# EAGLE library part AM188ER (library AMD)
AM188ER Microcontroller
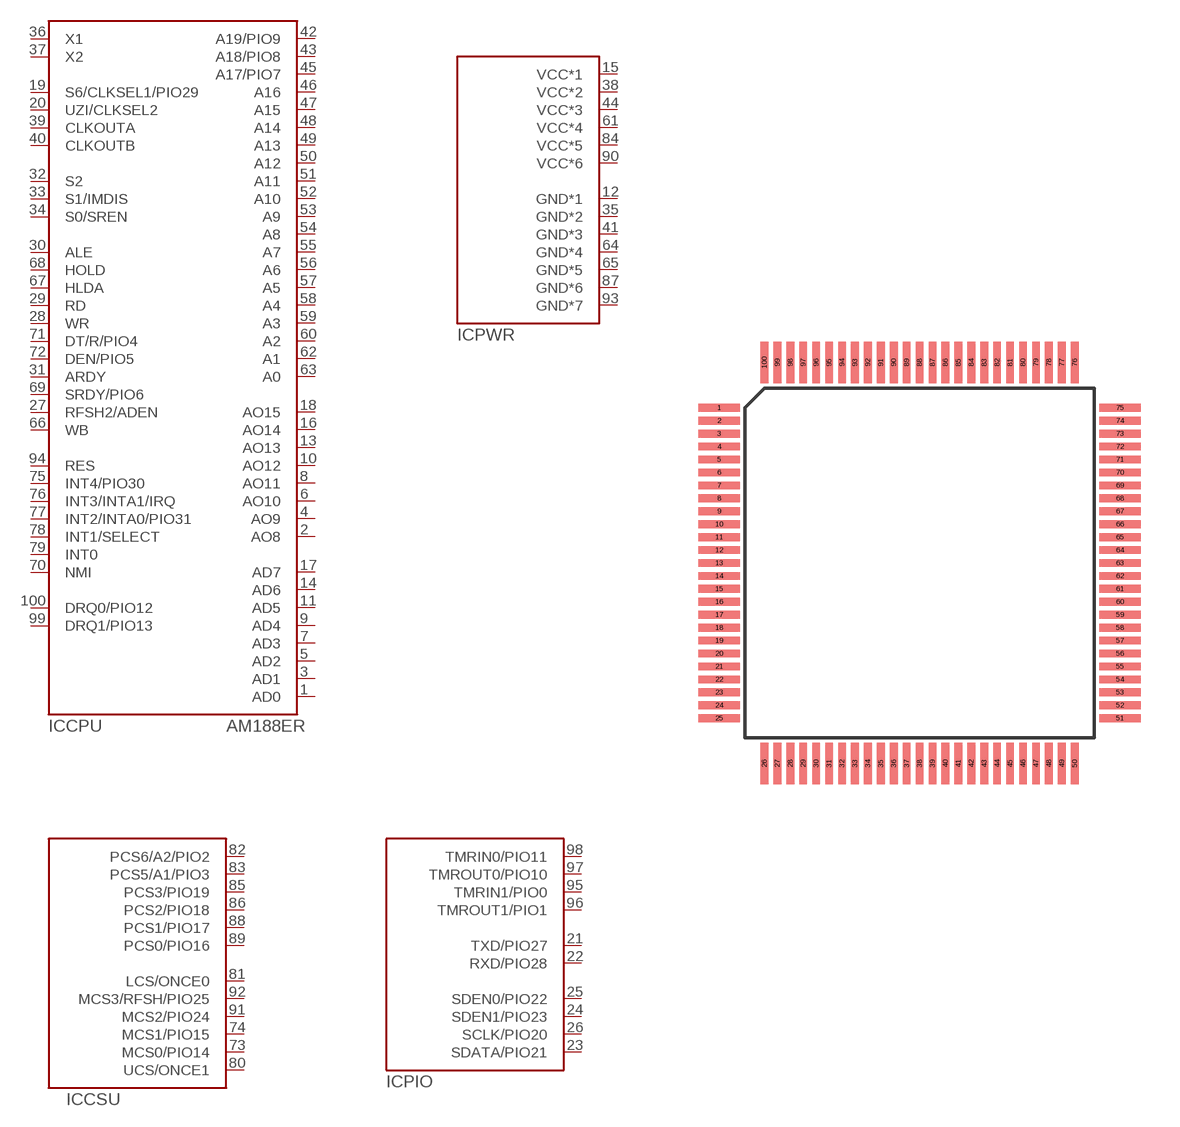
[diagram p0: symbol with the pads of TQFP-100; footprint TQFP-100]

Designator prefix IC; gates CPU=AM188ER-CPU CSU=AM188ER-CSU PIO=AM188ER-PIO PWR=AM188ER-PWR

## AM188ER-V  [TQFP-100]
1  CPU:AD0
2  CPU:AO8
3  CPU:AD1
4  CPU:AO9
5  CPU:AD2
6  CPU:AO10
7  CPU:AD3
8  CPU:AO11
9  CPU:AD4
10  CPU:AO12
11  CPU:AD5
12  PWR:GND*1  pwr
13  CPU:AO13
14  CPU:AD6
15  PWR:VCC*1  pwr
16  CPU:AO14
17  CPU:AD7
18  CPU:AO15
19  CPU:S6/CLKSEL1/PIO29
20  CPU:UZI/CLKSEL2
21  PIO:TXD/PIO27
22  PIO:RXD/PIO28
23  PIO:SDATA/PIO21
24  PIO:SDEN1/PIO23
25  PIO:SDEN0/PIO22
26  PIO:SCLK/PIO20
27  CPU:RFSH2/ADEN
28  CPU:WR
29  CPU:RD
30  CPU:ALE
31  CPU:ARDY
32  CPU:S2
33  CPU:S1/IMDIS
34  CPU:S0/SREN
35  PWR:GND*2  pwr
36  CPU:X1
37  CPU:X2
38  PWR:VCC*2  pwr
39  CPU:CLKOUTA
40  CPU:CLKOUTB
41  PWR:GND*3  pwr
42  CPU:A19/PIO9
43  CPU:A18/PIO8
44  PWR:VCC*3  pwr
45  CPU:A17/PIO7
46  CPU:A16
47  CPU:A15
48  CPU:A14
49  CPU:A13
50  CPU:A12
51  CPU:A11
52  CPU:A10
53  CPU:A9
54  CPU:A8
55  CPU:A7
56  CPU:A6
57  CPU:A5
58  CPU:A4
59  CPU:A3
60  CPU:A2
61  PWR:VCC*4  pwr
62  CPU:A1
63  CPU:A0
64  PWR:GND*4  pwr
65  PWR:GND*5  pwr
66  CPU:WB
67  CPU:HLDA
68  CPU:HOLD
69  CPU:SRDY/PIO6
70  CPU:NMI
71  CPU:DT/R/PIO4
72  CPU:DEN/PIO5
73  CSU:MCS0/PIO14
74  CSU:MCS1/PIO15
75  CPU:INT4/PIO30
76  CPU:INT3/INTA1/IRQ
77  CPU:INT2/INTA0/PIO31
78  CPU:INT1/SELECT
79  CPU:INT0
80  CSU:UCS/ONCE1
81  CSU:LCS/ONCE0
82  CSU:PCS6/A2/PIO2
83  CSU:PCS5/A1/PIO3
84  PWR:VCC*5  pwr
85  CSU:PCS3/PIO19
86  CSU:PCS2/PIO18
87  PWR:GND*6  pwr
88  CSU:PCS1/PIO17
89  CSU:PCS0/PIO16
90  PWR:VCC*6  pwr
91  CSU:MCS2/PIO24
92  CSU:MCS3/RFSH/PIO25
93  PWR:GND*7  pwr
94  CPU:RES
95  PIO:TMRIN1/PIO0
96  PIO:TMROUT1/PIO1
97  PIO:TMROUT0/PIO10
98  PIO:TMRIN0/PIO11
99  CPU:DRQ1/PIO13
100  CPU:DRQ0/PIO12

## Footprint TQFP-100 (pad centres in mm)
smd 1.6 x 0.3: 1 -7.75,6; 2 -7.75,5.5; 3 -7.75,5; 4 -7.75,4.5; 5 -7.75,4; 6 -7.75,3.5; 7 -7.75,3; 8 -7.75,2.5; 9 -7.75,2; 10 -7.75,1.5; 11 -7.75,1; 12 -7.75,0.5; 13 -7.75,0; 14 -7.75,-0.5; 15 -7.75,-1; 16 -7.75,-1.5; 17 -7.75,-2; 18 -7.75,-2.5; 19 -7.75,-3; 20 -7.75,-3.5; 21 -7.75,-4; 22 -7.75,-4.5; 23 -7.75,-5; 24 -7.75,-5.5; 25 -7.75,-6; 51 7.75,-6; 52 7.75,-5.5; 53 7.75,-5; 54 7.75,-4.5; 55 7.75,-4; 56 7.75,-3.5; 57 7.75,-3; 58 7.75,-2.5; 59 7.75,-2; 60 7.75,-1.5; 61 7.75,-1; 62 7.75,-0.5; 63 7.75,0; 64 7.75,0.5; 65 7.75,1; 66 7.75,1.5; 67 7.75,2; 68 7.75,2.5; 69 7.75,3; 70 7.75,3.5; 71 7.75,4; 72 7.75,4.5; 73 7.75,5; 74 7.75,5.5; 75 7.75,6
smd 0.3 x 1.6: 26 -6,-7.75; 27 -5.5,-7.75; 28 -5,-7.75; 29 -4.5,-7.75; 30 -4,-7.75; 31 -3.5,-7.75; 32 -3,-7.75; 33 -2.5,-7.75; 34 -2,-7.75; 35 -1.5,-7.75; 36 -1,-7.75; 37 -0.5,-7.75; 38 0,-7.75; 39 0.5,-7.75; 40 1,-7.75; 41 1.5,-7.75; 42 2,-7.75; 43 2.5,-7.75; 44 3,-7.75; 45 3.5,-7.75; 46 4,-7.75; 47 4.5,-7.75; 48 5,-7.75; 49 5.5,-7.75; 50 6,-7.75; 76 6,7.75; 77 5.5,7.75; 78 5,7.75; 79 4.5,7.75; 80 4,7.75; 81 3.5,7.75; 82 3,7.75; 83 2.5,7.75; 84 2,7.75; 85 1.5,7.75; 86 1,7.75; 87 0.5,7.75; 88 0,7.75; 89 -0.5,7.75; 90 -1,7.75; 91 -1.5,7.75; 92 -2,7.75; 93 -2.5,7.75; 94 -3,7.75; 95 -3.5,7.75; 96 -4,7.75; 97 -4.5,7.75; 98 -5,7.75; 99 -5.5,7.75; 100 -6,7.75